# EAGLE library part DIP8 (library switch-dil)
DIL/CODE SWITCH
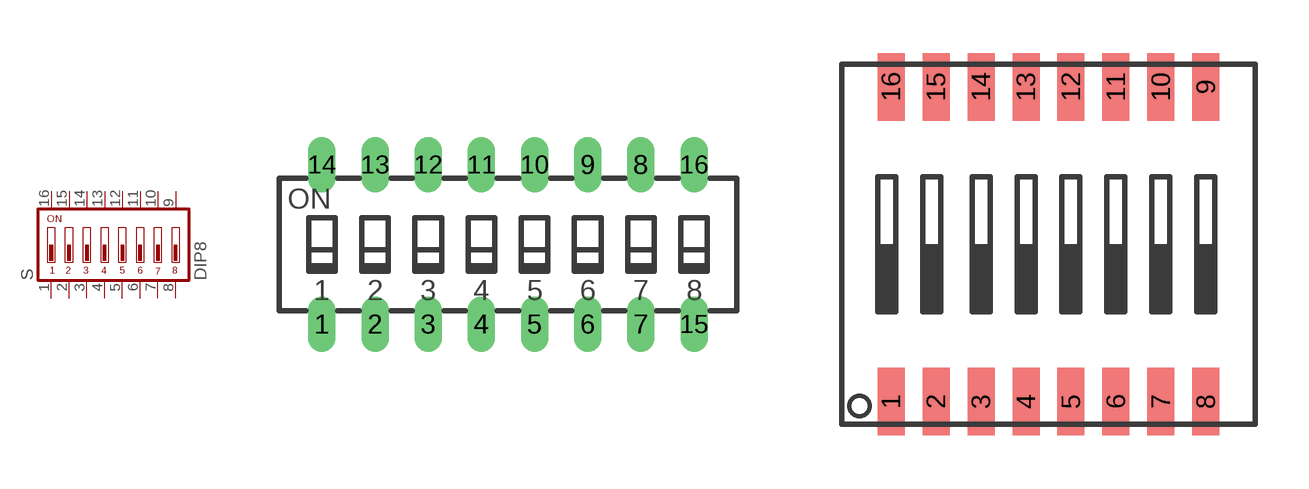
[diagram p41: symbol with the pads of SD4-08; footprints SD4-08, SMA-08]

Designator prefix S

## DIP8-TH  [SD4-08]
1  1  pas
2  2  pas
3  3  pas
4  4  pas
5  5  pas
6  6  pas
7  7  pas
8  8  pas
9  9  pas
10  10  pas
11  11  pas
12  12  pas
13  13  pas
14  14  pas
15  15  pas
16  16  pas

## DIP8-SMA  [SMA-08]
Pads as for SD4-08

## Footprint SD4-08 (pad centres in mm)
DIL/CODE SWITCH Mors
drill 0.813 long: 1 -8.89,-3.81; 2 -6.35,-3.81; 3 -3.81,-3.81; 4 -1.27,-3.81; 5 1.27,-3.81; 6 3.81,-3.81; 7 6.35,-3.81; 8 6.35,3.81; 9 3.81,3.81; 10 1.27,3.81; 11 -1.27,3.81; 12 -3.81,3.81; 13 -6.35,3.81; 14 -8.89,3.81; 15 8.89,-3.81; 16 8.89,3.81

## Footprint SMA-08 (pad centres in mm)
SMA DIP Switch, Half Pitch Surface Mount ? TDA Series Manufacturer: ITT Industries, Cannon References: Digikey Part Number: CKN1365-ND http://rocky.digikey.com/WebLib/C%26K%20Components/Web%20Data/TDA%20Series.pdf CKN1364-ND = 6 position one catalog page: http://dkc3.digikey.com/PDF/T051/1206.pdf created by: Blake Robertson (blaker@ieee.org) 4-25-05
smd 0.762 x 1.905: 1 -4.445,-4.445; 2 -3.175,-4.445; 3 -1.905,-4.445; 4 -0.635,-4.445; 5 0.635,-4.445; 6 1.905,-4.445; 7 3.175,-4.445; 8 4.445,-4.445; 9 4.445,4.445; 10 3.175,4.445; 11 1.905,4.445; 12 0.635,4.445; 13 -0.635,4.445; 14 -1.905,4.445; 15 -3.175,4.445; 16 -4.445,4.445